# EAGLE library part K3 (library CAN_BUS_Interface_v2)
Typ: F/P2, M/P2 ( VG-16...)
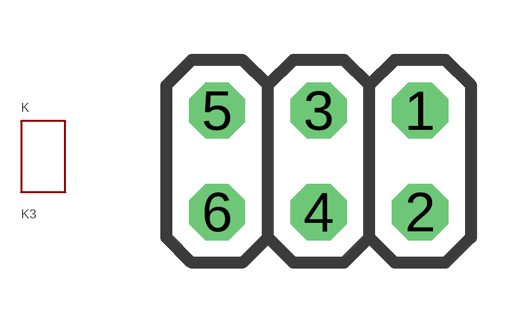
[diagram p5: symbol with the pads of K3; footprint K3]

Designator prefix K

## K3  [K3]
1  1  pas
2  2  pas
3  3  pas
4  4  pas
5  5  pas
6  6  pas

## Footprint K3 (pad centres in mm)
2X03
drill 0.9 pad 1.4 octagon: 1 0,0; 2 0,-2.54; 3 -2.54,0; 4 -2.54,-2.54; 5 -5.08,0; 6 -5.08,-2.54